# Altium schematic symbol library MicroXNJ Micro USB.Schlib: 1 symbol
Pins are listed as number, name and electrical type; pins without a type are passive.

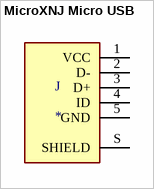
[diagram p0: symbol MicroXNJ Micro USB]

## MicroXNJ Micro USB
designator J
SMD USB Connectors RoHS; ComponentLink1Description: LCSC - SHOU HAN MicroXNJ; ComponentLink1URL: https://lcsc.com/product-detail/USB-Connectors_SHOU-HAN-MicroXNJ_C404969.html; LCSC Part #: C404969
footprint Micro USB - MicroXNJ
pins: 1 VCC, 2 D-, 3 D+, 4 ID, 5 GND, S SHIELD